# Altium schematic symbol library Schematic Library.SchLib: 41 symbols
Pins are listed as number, name and electrical type; pins without a type are passive.

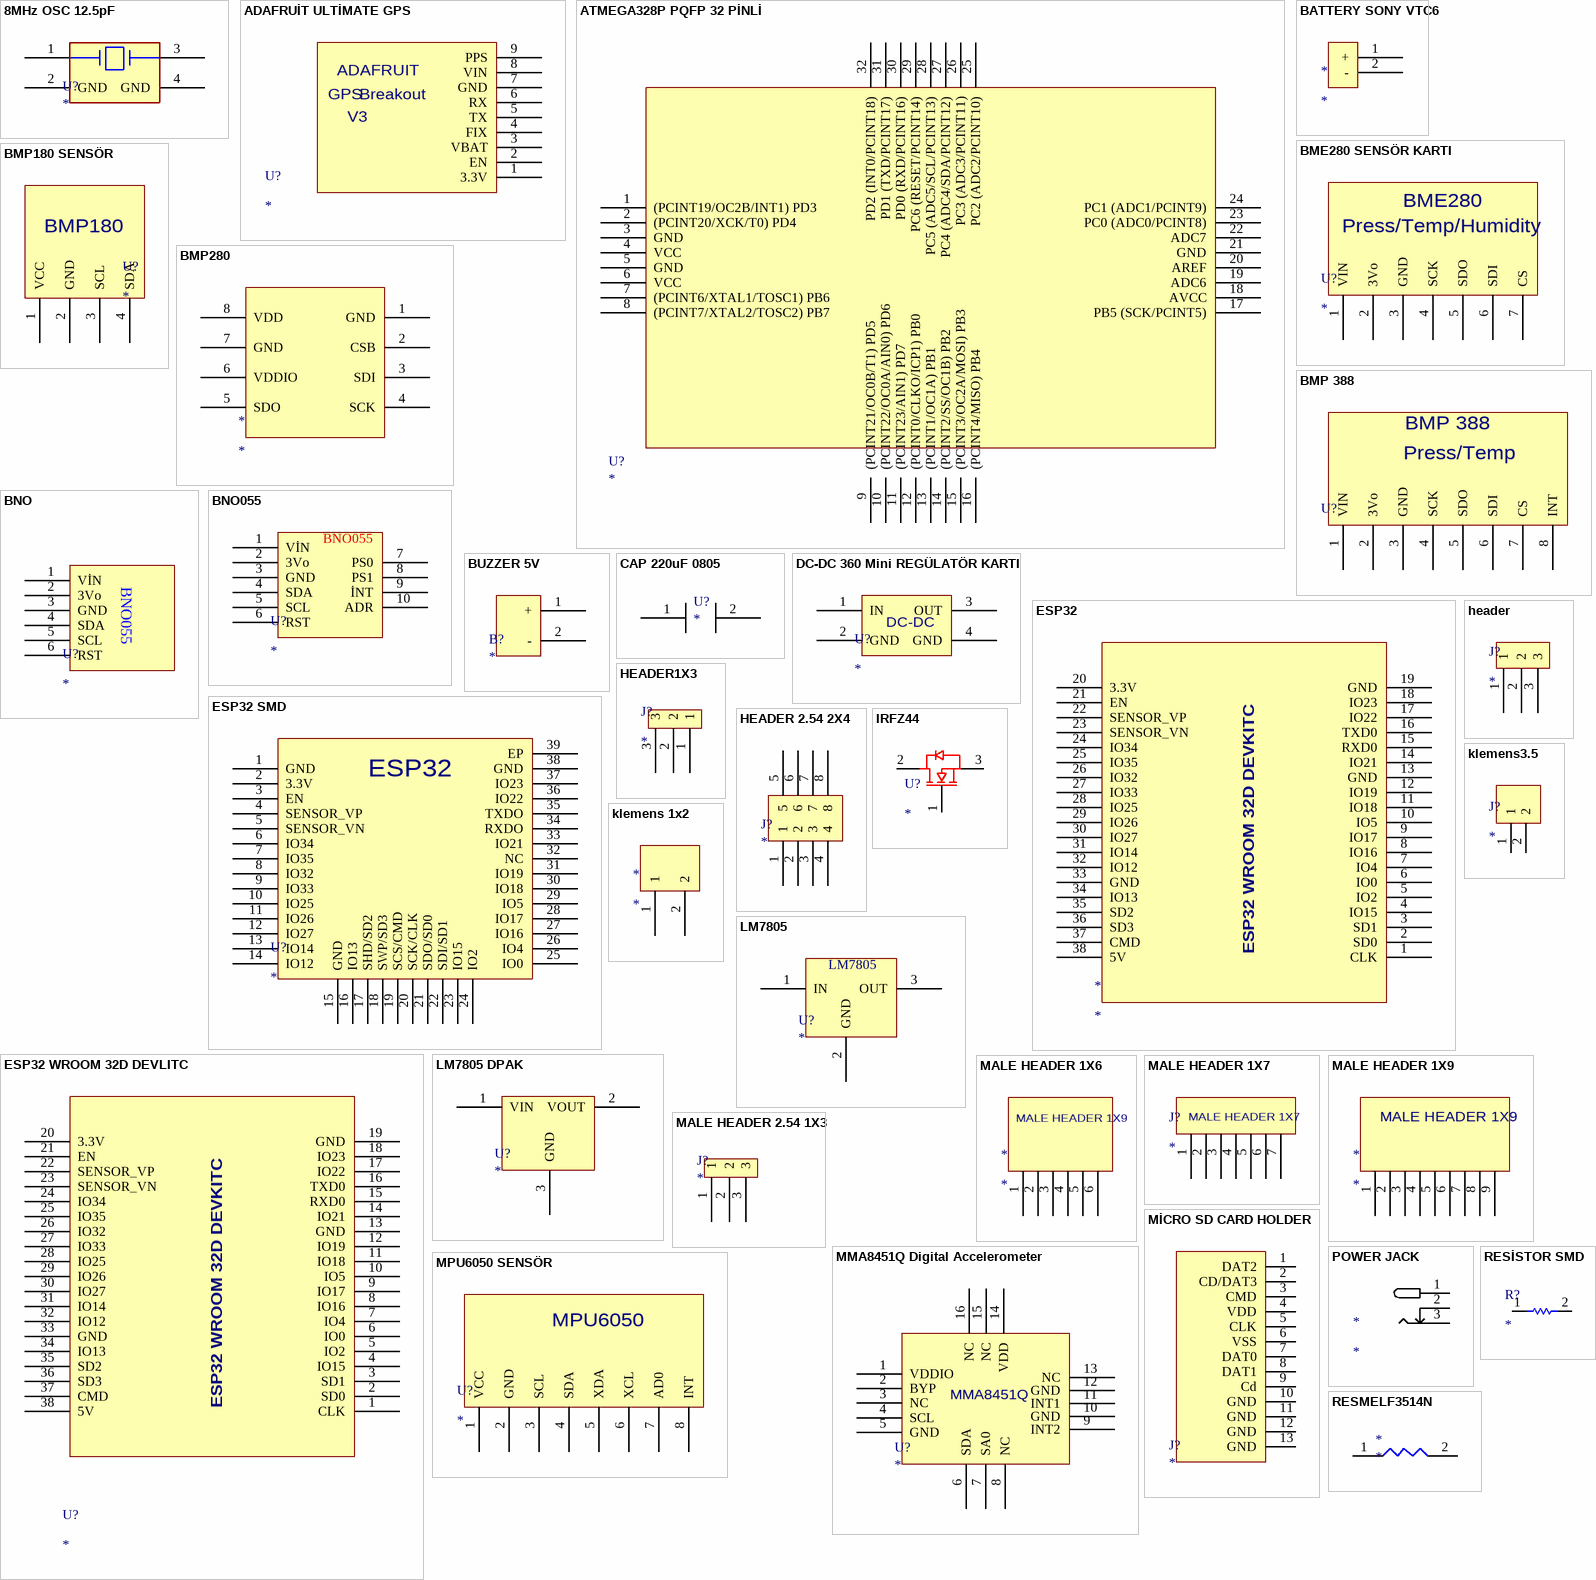
[diagram p0: symbols 8MHz OSC 12.5pF to RESMELF3514N]

## 8MHz OSC 12.5pF
designator U?
footprint 8MHz Osc
pins: 1, 2 GND, 3, 4 GND

## ADAFRUİT ULTİMATE GPS
designator U?
3.0-5.5 VDC  20mA current
footprint ADAFRUİT ULTİMATE GPS
pins: 1 3.3V, 2 EN, 3 VBAT, 4 FIX, 5 TX, 6 RX, 7 GND, 8 VIN, 9 PPS
text: ADAFRUIT; GPS; Breakout; V3

## ATMEGA328P PQFP 32 PİNLİ
designator U?
ATMEGA328P 32 PİNLİ 1.8V-5.5V
footprint ATMEGA328P PQFP 32 PİNLİ (TQFP, 32-Leads, Body 7,00x7,00mm, Pitch 0,80mm, IPC Medium Density)
pins: 1 (PCINT19/OC2B/INT1) PD3, 2 (PCINT20/XCK/T0) PD4, 3 GND, 4 VCC, 5 GND, 6 VCC, 7 (PCINT6/XTAL1/TOSC1) PB6, 8 (PCINT7/XTAL2/TOSC2) PB7, 9 (PCINT21/OC0B/T1) PD5, 10 (PCINT22/OC0A/AIN0) PD6, 11 (PCINT23/AIN1) PD7, 12 (PCINT0/CLKO/ICP1) PB0, 13 (PCINT1/OC1A) PB1, 14 (PCINT2/SS/OC1B) PB2, 15 (PCINT3/OC2A/MOSI) PB3, 16 (PCINT4/MISO) PB4, 17 PB5 (SCK/PCINT5), 18 AVCC, 19 ADC6, 20 AREF, 21 GND, 22 ADC7, 23 PC0 (ADC0/PCINT8), 24 PC1 (ADC1/PCINT9), 25 PC2 (ADC2/PCINT10), 26 PC3 (ADC3/PCINT11), 27 PC4 (ADC4/SDA/PCINT12), 28 PC5 (ADC5/SCL/PCINT13), 29 PC6 (RESET/PCINT14), 30 PD0 (RXD/PCINT16), 31 PD1 (TXD/PCINT17), 32 PD2 (INT0/PCINT18)

## BATTERY SONY VTC6
designator *
footprint BATTERY SONY VTC 6
pins: 1 +, 2 -

## BME280 SENSÖR KARTI
designator U?
footprint BME280 SENSÖR KARTI
pins: 1 VIN, 2 3Vo, 3 GND, 4 SCK, 5 SDO, 6 SDI, 7 CS
text: BME280; Press/Temp/Humidity

## BMP180 SENSÖR
designator U?
footprint BMP180
pins: 1 VCC, 2 GND, 3 SCL, 4 SDA
text: BMP180

## BMP280
designator *
footprint BMP280
pins: 1 GND, 2 CSB, 3 SDI, 4 SCK, 5 SDO, 6 VDDIO, 7 GND, 8 VDD

## BMP 388
designator U?
Press\Temp 1.2V to 3.6V
footprint BMP388
pins: 1 VIN, 2 3Vo, 3 GND, 4 SCK, 5 SDO, 6 SDI, 7 CS, 8 INT
text: Press/Temp

## BNO
designator U?
footprint PCBComponent_1
pins: 1 VİN, 2 3Vo, 3 GND, 4 SDA, 5 SCL, 6 RST
text: BNO055

## BNO055
designator U?
2.4V to 3.6V
footprint BNO055
pins: 1 VİN, 2 3Vo, 3 GND, 4 SDA, 5 SCL, 6 RST, 7 PS0, 8 PS1, 9 İNT, 10 ADR

## BUZZER 5V
designator B?
footprint BUZZER 4 to 8 V
pins: 1 +, 2 -

## CAP 220uF 0805
designator U?
220uF; Supplier 1: Digi-Key; Supplier Part Number 1: 478-11595-1-ND
footprint CAPC1608X10N (Chip Capacitor, 2-Leads, Body 1,60x0,80mm, IPC Medium Density)
pins: 1, 2

## DC-DC 360 Mini REGÜLATÖR KARTI
designator U?
footprint DC-DC Mini 360 REGÜLATÖR KARTI
pins: 1 IN, 2 GND, 3 OUT, 4 GND
text: DC-DC

## ESP32
designator *
footprint ESP32
pins: 1 CLK, 2 SD0, 3 SD1, 4 IO15, 5 IO2, 6 IO0, 7 IO4, 8 IO16, 9 IO17, 10 IO5, 11 IO18, 12 IO19, 13 GND, 14 IO21, 15 RXD0, 16 TXD0, 17 IO22, 18 IO23, 19 GND, 20 3.3V, 21 EN, 22 SENSOR_VP, 23 SENSOR_VN, 24 IO34, 25 IO35, 26 IO32, 27 IO33, 28 IO25, 29 IO26, 30 IO27, 31 IO14, 32 IO12, 33 GND, 34 IO13, 35 SD2, 36 SD3, 37 CMD, 38 5V
text: ESP32 WROOM 32D DEVKITC

## ESP32 SMD
designator U?
39 PİNLİ ESP32 TABANLI SMD
footprint ESP32 SMD
pins: 1 GND, 2 3.3V, 3 EN, 4 SENSOR_VP, 5 SENSOR_VN, 6 IO34, 7 IO35, 8 IO32, 9 IO33, 10 IO25, 11 IO26, 12 IO27, 13 IO14, 14 IO12, 15 GND, 16 IO13, 17 SHD/SD2, 18 SWP/SD3, 19 SCS/CMD, 20 SCK/CLK, 21 SDO/SD0, 22 SDI/SD1, 23 IO15, 24 IO2, 25 IO0, 26 IO4, 27 IO16, 28 IO17, 29 IO5, 30 IO18, 31 IO19, 32 NC, 33 IO21, 34 RXDO, 35 TXDO, 36 IO22, 37 IO23, 38 GND, 39 EP
text: ESP32

## ESP32 WROOM 32D DEVLITC
designator U?
footprint ESP32 WROOM 32D
pins: 1 CLK, 2 SD0, 3 SD1, 4 IO15, 5 IO2, 6 IO0, 7 IO4, 8 IO16, 9 IO17, 10 IO5, 11 IO18, 12 IO19, 13 GND, 14 IO21, 15 RXD0, 16 TXD0, 17 IO22, 18 IO23, 19 GND, 20 3.3V, 21 EN, 22 SENSOR_VP, 23 SENSOR_VN, 24 IO34, 25 IO35, 26 IO32, 27 IO33, 28 IO25, 29 IO26, 30 IO27, 31 IO14, 32 IO12, 33 GND, 34 IO13, 35 SD2, 36 SD3, 37 CMD, 38 5V
text: ESP32 WROOM 32D DEVKITC

## header
designator J?
footprint PCBComponent_1
pins: 1, 2, 3

## HEADER1X3
designator J?
footprint HEADER1X3
pins: 1, 2, 3

## HEADER 2.54 2X4
designator J?
footprint FEMALE HEADER 2.54 2X4
pins: 1, 2, 3, 4, 5, 6, 7, 8

## IRFZ44
designator U?
footprint IRFZ44
pins: 1 gate, 2 drain, 3 source

## klemens3.5
designator J?
footprint klemens 1x2
pins: 1, 2

## klemens 1x2
designator *
footprint klemens 1x2
pins: 1, 2

## LM7805
designator U?
Besleme voltajı max 35V  Besleme voltajı min 7V
footprint LM7805 REGÜLATÖR
pins: 1 IN, 2 GND, 3 OUT

## LM7805 DPAK
designator U?
footprint DPAK228P972X240-3N (D-PAK, 3-Pads, Body 6,20x6,66mm (max), IPC Medium Density)
pins: 1 VIN, 2 VOUT, 3 GND

## MALE HEADER 1X6
designator *
footprint MALE HEADER 1X6
pins: 1, 2, 3, 4, 5, 6
text: MALE HEADER 1X9

## MALE HEADER 1X7
designator J?
footprint MALE HEADER  1X7
pins: 1, 2, 3, 4, 5, 6, 7

## MALE HEADER 1X9
designator *
footprint MALE HEADER 1X9
pins: 1, 2, 3, 4, 5, 6, 7, 8, 9

## MALE HEADER 2.54 1X3
designator J?
footprint PCBComponent_1
pins: 1, 2, 3

## MİCRO SD CARD HOLDER
designator J?
footprint MİCRO SD CARD HOLDER
pins: 1 DAT2, 2 CD/DAT3, 3 CMD, 4 VDD, 5 CLK, 6 VSS, 7 DAT0, 8 DAT1, 9 Cd, 10 GND, 11 GND, 12 GND, 13 GND

## MMA8451Q Digital Accelerometer
designator U?
footprint MMA8451Q Digital Accelerometer (QFN, 16-Leads, Body 3,00x3,00mm, Pitch 0,50mm, IPC Medium Density)
pins: 1 VDDIO, 2 BYP, 3 NC, 4 SCL, 5 GND, 6 SDA, 7 SA0, 8 NC, 9 INT2, 10 GND, 11 INT1, 12 GND, 13 NC, 14 VDD, 15 NC, 16 NC
text: MMA8451Q

## MPU6050 SENSÖR
designator U?
footprint MPU6050 SENSÖR
pins: 1 VCC, 2 GND, 3 SCL, 4 SDA, 5 XDA, 6 XCL, 7 AD0, 8 INT
text: MPU6050

## POWER JACK
designator *
footprint POWER JACK
pins: 1 VCC, 2 GND, 3 GND

## RESİSTOR SMD
designator R?
footprint RESİSTOR SMD
pins: 1, 2

## RESMELF3514N
designator *
footprint RESMELF3514N (MELF Resistor, 2-Leads, Body 3,50x1,35mm, IPC Medium Density)
pins: 1, 2

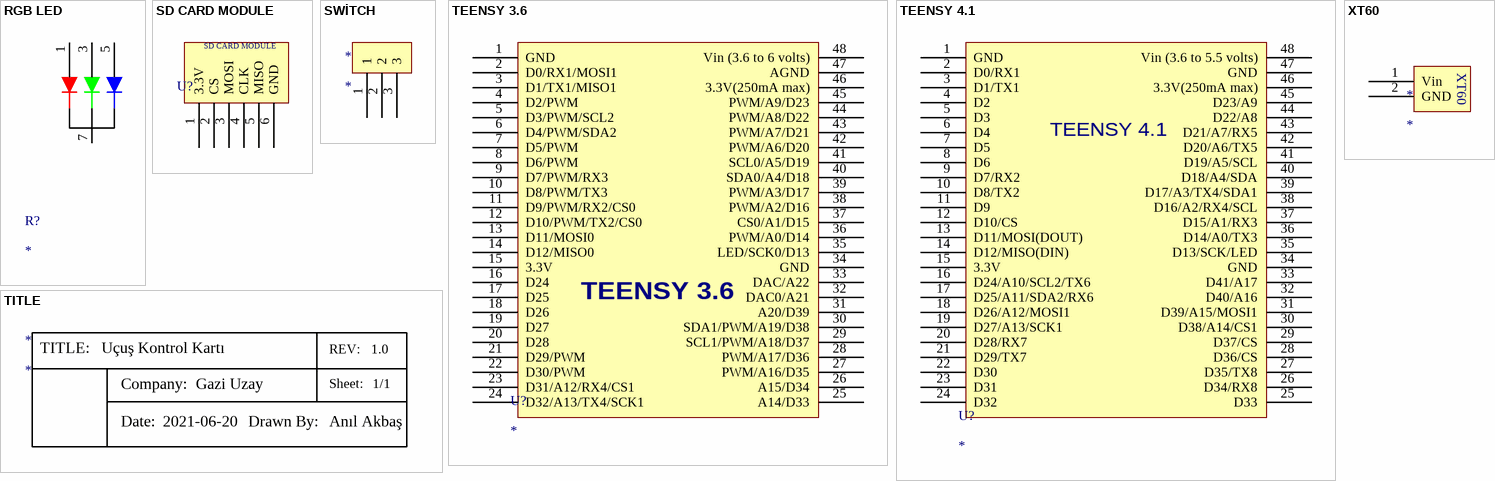
[diagram p1: symbols RGB LED to XT60]

## RGB LED
designator R?
footprint RGB LED
pins: 1 0, 3, 5, 7 GND, ?1, ?2, ?3

## SD CARD MODULE
designator U?
footprint SD CARD MODULE
pins: 1 3.3V, 2 CS, 3 MOSI, 4 CLK, 5 MISO, 6 GND

## SWİTCH
designator *
footprint SWİTCH
pins: 1, 2, 3

## TEENSY 3.6
designator U?
pins: 1 GND, 2 D0/RX1/MOSI1, 3 D1/TX1/MISO1, 4 D2/PWM, 5 D3/PWM/SCL2, 6 D4/PWM/SDA2, 7 D5/PWM, 8 D6/PWM, 9 D7/PWM/RX3, 10 D8/PWM/TX3, 11 D9/PWM/RX2/CS0, 12 D10/PWM/TX2/CS0, 13 D11/MOSI0, 14 D12/MISO0, 15 3.3V, 16 D24, 17 D25, 18 D26, 19 D27, 20 D28, 21 D29/PWM, 22 D30/PWM, 23 D31/A12/RX4/CS1, 24 D32/A13/TX4/SCK1, 25 A14/D33, 26 A15/D34, 27 PWM/A16/D35, 28 PWM/A17/D36, 29 SCL1/PWM/A18/D37, 30 SDA1/PWM/A19/D38, 31 A20/D39, 32 DAC0/A21, 33 DAC/A22, 34 GND, 35 LED/SCK0/D13, 36 PWM/A0/D14, 37 CS0/A1/D15, 38 PWM/A2/D16, 39 PWM/A3/D17, 40 SDA0/A4/D18, 41 SCL0/A5/D19, 42 PWM/A6/D20, 43 PWM/A7/D21, 44 PWM/A8/D22, 45 PWM/A9/D23, 46 3.3V(250mA max), 47 AGND, 48 Vin (3.6 to 6 volts)

## TEENSY 4.1
designator U?
footprint TEENSY 4.1
pins: 1 GND, 2 D0/RX1, 3 D1/TX1, 4 D2, 5 D3, 6 D4, 7 D5, 8 D6, 9 D7/RX2, 10 D8/TX2, 11 D9, 12 D10/CS, 13 D11/MOSI(DOUT), 14 D12/MISO(DIN), 15 3.3V, 16 D24/A10/SCL2/TX6, 17 D25/A11/SDA2/RX6, 18 D26/A12/MOSI1, 19 D27/A13/SCK1, 20 D28/RX7, 21 D29/TX7, 22 D30, 23 D31, 24 D32, 25 D33, 26 D34/RX8, 27 D35/TX8, 28 D36/CS, 29 D37/CS, 30 D38/A14/CS1, 31 D39/A15/MOSI1, 32 D40/A16, 33 D41/A17, 34 GND, 35 D13/SCK/LED, 36 D14/A0/TX3, 37 D15/A1/RX3, 38 D16/A2/RX4/SCL, 39 D17/A3/TX4/SDA1, 40 D18/A4/SDA, 41 D19/A5/SCL, 42 D20/A6/TX5, 43 D21/A7/RX5, 44 D22/A8, 45 D23/A9, 46 3.3V(250mA max), 47 GND, 48 Vin (3.6 to 5.5 volts)

## TITLE
designator *
text: TITLE:; Uçuş Kontrol Kartı; REV:; 1.0; Company:; Gazi Uzay; Sheet:; 1/1; Date:; 2021-06-20; Drawn By:; Anıl Akbaş

## XT60
designator *
footprint XT60
pins: 1 Vin, 2 GND